# EAGLE library part NSVA352 (library murata)
SAW Filter 1575.42MHzFrequency 50Ohm SMD 8Pin
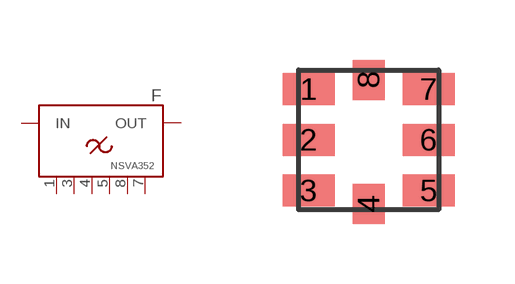
[diagram p2: symbol with the pads of SMD8_3P5X3P5; footprint SMD8_3P5X3P5]

Designator prefix F

## NSVA352 (MFR: new japan radio; MPN: NSVA-352)  [SMD8_3P5X3P5]
1  G1
2  IN
3  G2
4  G3
5  G4
6  OUT
7  G6
8  G5

## Footprint SMD8_3P5X3P5 (pad centres in mm)
smd 1.3 x 0.8: 1 -1.5,1.27; 2 -1.5,0; 3 -1.5,-1.27; 5 1.5,-1.27; 6 1.5,0; 7 1.5,1.27
smd 0.8 x 1: 4 0,-1.6; 8 0,1.5